# EAGLE library part CY8C28443-28PIN (library cypress_psoc_V1_0)
Cypress PSoC® 1 - Programmable System on Chip, M8C Based Source Data: http://www.cypress.com/?docID=35867 LBR Source: http://www.westmarkelectronics.com Thomas W. Moxon Director of Engineering www.westmarkelectronics.com
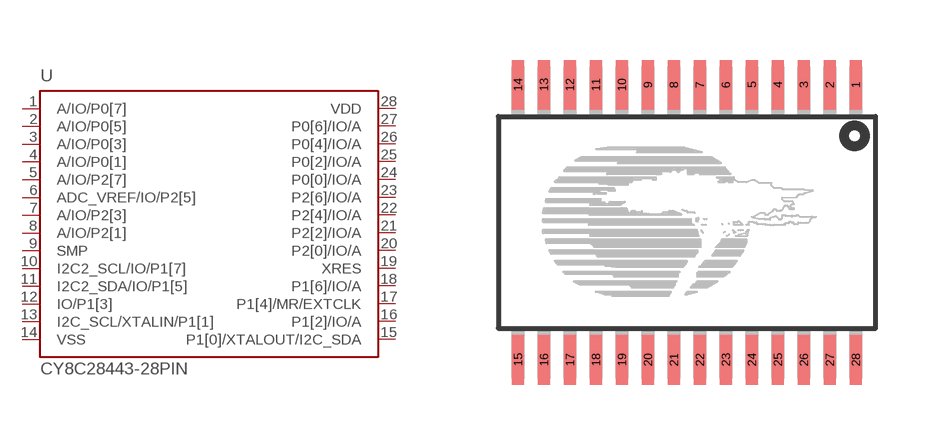
[diagram p6: symbol with the pads of SSOP28; footprint SSOP28]

Designator prefix -

## CY8C28443-28PIN (MPN: CY8C28443-24PVXI)  [SSOP28]
1  A/IO/P0[7]
2  A/IO/P0[5]
3  A/IO/P0[3]
4  A/IO/P0[1]
5  A/IO/P2[7]
6  ADC_VREF/IO/P2[5]
7  A/IO/P2[3]
8  A/IO/P2[1]
9  SMP  pwr
10  I2C2_SCL/IO/P1[7]
11  I2C2_SDA/IO/P1[5]
12  IO/P1[3]
13  I2C_SCL/XTALIN/P1[1]
14  VSS  pwr
15  P1[0]/XTALOUT/I2C_SDA
16  P1[2]/IO/A
17  P1[4]/MR/EXTCLK
18  P1[6]/IO/A
19  XRES  in
20  P2[0]/IO/A
21  P2[2]/IO/A
22  P2[4]/IO/A
23  P2[6]/IO/A
24  P0[0]/IO/A
25  P0[2]/IO/A
26  P0[4]/IO/A
27  P0[6]/IO/A
28  VDD  pwr

## Footprint SSOP28 (pad centres in mm)
SSOP-28 Shrink Small Outline Package with 28 pins 28LD SSOP .210 mil Data Source: http://www.cypress.com/?docID=1371 LBR Source: http://www.westmarkelectronics.com
smd 0.305 x 1.245: 1 4.224,3.441; 2 3.574,3.441; 3 2.924,3.441; 4 2.274,3.441; 5 1.624,3.441; 6 0.974,3.441; 7 0.325,3.44; 8 -0.326,3.441; 9 -0.976,3.441; 10 -1.626,3.441; 11 -2.276,3.441; 12 -2.926,3.441; 13 -3.576,3.441; 14 -4.226,3.441; 15 -4.224,-3.441; 16 -3.574,-3.441; 17 -2.924,-3.441; 18 -2.274,-3.441; 19 -1.624,-3.441; 20 -0.974,-3.441; 21 -0.324,-3.441; 22 0.326,-3.441; 23 0.976,-3.441; 24 1.626,-3.441; 25 2.276,-3.441; 26 2.926,-3.441; 27 3.576,-3.441; 28 4.226,-3.441